# EAGLE library part UC_ATTINY44 (library fab_new)
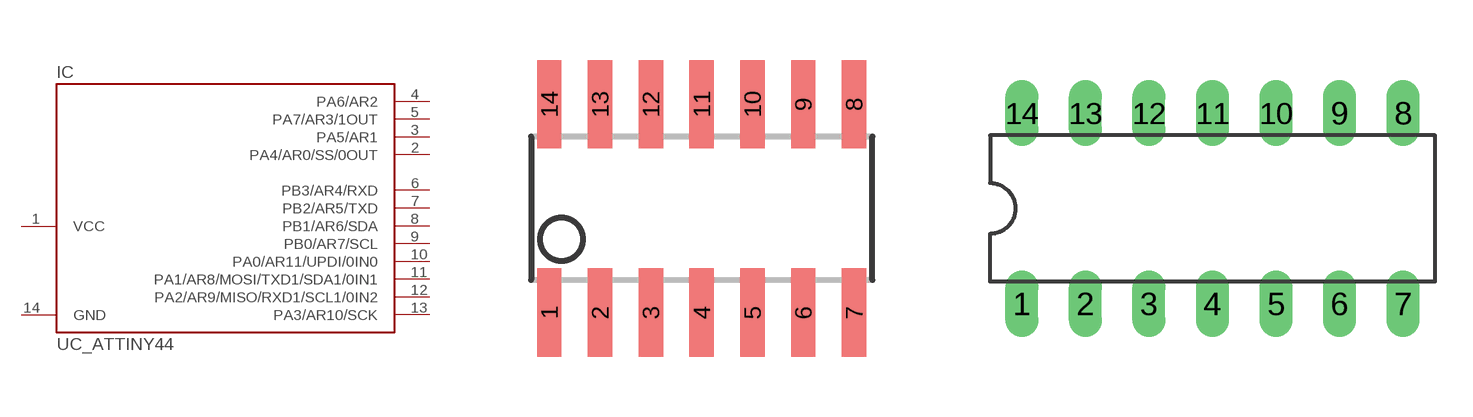
[diagram p3: symbol with the pads of SOIC14; footprints SOIC14, DIL14]

Designator prefix IC

## UC_ATTINY44-SSU  [SOIC14]
1  VCC  pwr
2  PA4/AR0/SS/0OUT
3  PA5/AR1
4  PA6/AR2
5  PA7/AR3/1OUT
6  PB3/AR4/RXD
7  PB2/AR5/TXD
8  PB1/AR6/SDA
9  PB0/AR7/SCL
10  PA0/AR11/UPDI/0IN0
11  PA1/AR8/MOSI/TXD1/SDA1/0IN1
12  PA2/AR9/MISO/RXD1/SCL1/0IN2
13  PA3/AR10/SCK
14  GND  pwr

## UC_ATTINY44-PU  [DIL14]
Pads as for SOIC14

## UC_ATTINY44-MU  [QFN/MLF20]
1  PB0/AR7/SCL
2  PA0/AR11/UPDI/0IN0
3  PA1/AR8/MOSI/TXD1/SDA1/0IN1
4  PA2/AR9/MISO/RXD1/SCL1/0IN2
5  PA3/AR10/SCK
8  GND  pwr
9  VCC  pwr
11  PA4/AR0/SS/0OUT
12  PA5/AR1
13  PA6/AR2
14  PA7/AR3/1OUT
15  PB3/AR4/RXD
16  PB2/AR5/TXD
20  PB1/AR6/SDA

## Footprint SOIC14 (pad centres in mm)
Small Outline Package
smd 0.61 x 2.21: 1 -3.81,-2.603; 2 -2.54,-2.603; 3 -1.27,-2.603; 4 0,-2.603; 5 1.27,-2.603; 6 2.54,-2.603; 7 3.81,-2.603; 8 3.81,2.603; 9 2.54,2.603; 10 1.27,2.603; 11 0,2.603; 12 -1.27,2.603; 13 -2.54,2.603; 14 -3.81,2.603

## Footprint DIL14 (pad centres in mm)
Dual In Line Package
drill 0.813 long: 1 -7.62,-3.81; 2 -5.08,-3.81; 3 -2.54,-3.81; 4 0,-3.81; 5 2.54,-3.81; 6 5.08,-3.81; 7 7.62,-3.81; 8 7.62,3.81; 9 5.08,3.81; 10 2.54,3.81; 11 0,3.81; 12 -2.54,3.81; 13 -5.08,3.81; 14 -7.62,3.81

## Footprint QFN/MLF20 (pad centres in mm)
HP-VFQFP-N20 Micro Lead Frame package (MLF)
smd 0.9 x 0.35: 1 -2.25,1.3; 2 -2.25,0.65; 3 -2.25,0; 4 -2.25,-0.65; 5 -2.25,-1.3; 11 2.25,-1.3; 12 2.25,-0.65; 13 2.25,0; 14 2.25,0.65; 15 2.25,1.3
smd 0.35 x 0.9: 6 -1.3,-2.25; 7 -0.65,-2.25; 8 0,-2.25; 9 0.65,-2.25; 10 1.3,-2.25; 16 1.3,2.25; 17 0.65,2.25; 18 0,2.25; 19 -0.65,2.25; 20 -1.3,2.25